# Altium integrated library ICs.IntLib: 97 symbols (part 1 of 3)
Pins are listed as number, name and electrical type; pins without a type are passive.

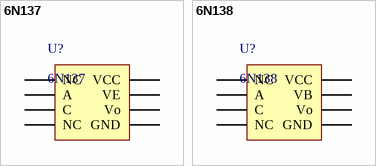
[diagram p0: symbols 6N137 to 6N138]

## 6N137
designator U?
footprint PDIP-8
pins: 1 NC, 2 A, 3 C, 4 NC, 5 GND, 6 Vo, 7 VE, 8 VCC

## 6N138
designator U?
footprint PDIP-8
pins: 1 NC, 2 A, 3 C, 4 NC, 5 GND, 6 Vo, 7 VB, 8 VCC


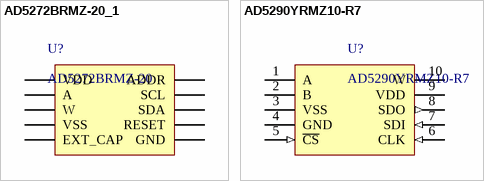
[diagram p1: symbols AD5272BRMZ-20_1 to AD5290YRMZ10-R7]

## AD5272BRMZ-20_1
designator U?, comment AD5272BRMZ-20
Digital Potentiometer ICs 1024p 5v SGL CHI2C 50-TP Mem Digi Rstat; Manufacturer: Texas Instruments; PartNumber: AD5272BRMZ-20; PackageReference: MSOP-10; PackageDescription: MSOP, 10-Leads, Body 3.00x3.00mm, Pitch 0.50mm, IPC Medium Density; Mounting Technology: Surface Mount
footprint MSOP-10 (TSSOP, 10-Leads, Body 3.00x3.00mm, Pitch 0.50mm, IPC Medium Density)
pins: 1 VDD, 2 A, 3 W, 4 VSS, 5 EXT_CAP, 6 GND, 7 RESET, 8 SDA, 9 SCL, 10 ADDR

## AD5290YRMZ10-R7
designator U?
Digital Potentiometer ICs +/-15V 8-Bit DigiPOT; Manufacturer: Texas Instruments; PartNumber: AD5290YRMZ10-R7; PackageReference: MSOP-10; PackageDescription: MSOP, 10-Leads, Body 3.00x3.00mm, Pitch 0.50mm, IPC Medium Density; Mounting Technology: Surface Mount
footprint MSOP-10 (TSSOP, 10-Leads, Body 3.00x3.00mm, Pitch 0.50mm, IPC Medium Density)
pins: 1 A, 2 B, 3 VSS (power), 4 GND (power), 5 ~{CS} (in), 6 CLK (in), 7 SDI (in), 8 SDO (out), 9 VDD (power), 10 W


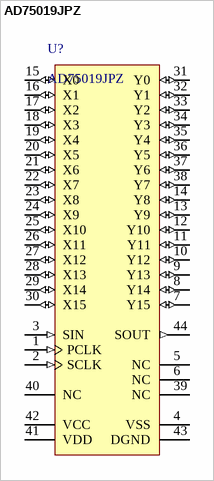
[diagram p2: symbol AD75019JPZ]

## AD75019JPZ
designator U?
Analog & Digital Crosspoint ICs 256 Analog Switches in a 16x16 Array; Manufacturer: Analog Devices; Output Buffer: No; Control Interface: Serial; Packing: Tube; Small Signal BW (MHz): 20; Slew Rate (V/us): n / a; Supply Voltage (V): +/-12; ComponentLink3URL: http://www.analog.com/static/imported-files/packages/533756178731793364534243243792136664964P44A.pdf; PackageReference: P-44A; ComponentLink3Description: Package Specification; DatasheetVersion: Rev. C; PackageDescription: 44-Pin Plastic Leaded Chip Carrier, Body 16.59 x 16.59 mm, Pitch 1.27 mm; ComponentLink2Description: Datasheet; Code_JEDEC: MO-047AC; PackageVersion: Jan-03; ComponentLink1Description: Manufacturer URL; ComponentLink2URL: http://www.analog.com/static/imported-files/data_sheets/AD75019.pdf; PartNumber: AD75019JPZ; Mounting Technology: Surface Mount; ComponentLink1URL: http://www.analog.com/en/index.html
footprint PLCC-44 (Leaded Chip Carrier, 44-Leads, Body 17.53x17.53mm, Pitch 1.270mm, IPC Medium Density)
pins: 1 PCLK (in) "Parallel Clock Input", 2 SCLK (in) "Serial Clock Input", 3 SIN (in) "Serial Data Input", 4 VSS (power) "Negative Analog Power Supply", 5 NC "No Internal Connection", 6 NC "No Internal Connection", 7 Y15 (io) "Analog Output (or Input)", 8 Y14 (io) "Analog Output (or Input)", 9 Y13 (io) "Analog Output (or Input)", 10 Y12 (io) "Analog Output (or Input)", 11 Y11 (io) "Analog Output (or Input)", 12 Y10 (io) "Analog Output (or Input)", 13 Y9 (io) "Analog Output (or Input)", 14 Y8 (io) "Analog Output (or Input)", 15 X0 (io) "Analog Input (or Output)", 16 X1 (io) "Analog Input (or Output)", 17 X2 (io) "Analog Input (or Output)", 18 X3 (io) "Analog Input (or Output)", 19 X4 (io) "Analog Input (or Output)", 20 X5 (io) "Analog Input (or Output)", 21 X6 (io) "Analog Input (or Output)", 22 X7 (io) "Analog Input (or Output)", 23 X8 (io) "Analog Input (or Output)", 24 X9 (io) "Analog Input (or Output)", 25 X10 (io) "Analog Input (or Output)", 26 X11 (io) "Analog Input (or Output)", 27 X12 (io) "Analog Input (or Output)", 28 X13 (io) "Analog Input (or Output)", 29 X14 (io) "Analog Output (or Input)", 30 X15 (io) "Analog Output (or Input)", 31 Y0 (io) "Analog Output (or Input)", 32 Y1 (io) "Analog Output (or Input)", 33 Y2 (io) "Analog Output (or Input)", 34 Y3 (io) "Analog Output (or Input)", 35 Y4 (io) "Analog Output (or Input)", 36 Y5 (io) "Analog Output (or Input)", 37 Y6 (io) "Analog Output (or Input)", 38 Y7 (io) "Analog Output (or Input)", 39 NC "No Internal Connection", 40 NC "No Internal Connection", 41 VDD (power) "Positive Analog Power Supply", 42 VCC (power) "Digital Power Supply", 43 DGND (power) "Digital Ground", 44 SOUT (out) "Serial Data Output: Positive True"


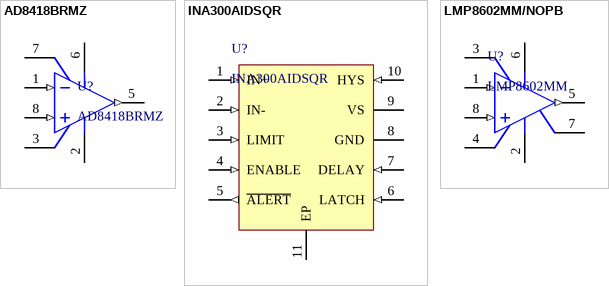
[diagram p3: symbols AD8418BRMZ to LMP8602MM/NOPB]

## AD8418BRMZ
designator U?
Current Sense Amplifiers Zero Drift ,Precision Current Sense AMP; Manufacturer: Analog Devices; PartNumber: AD8418BRMZ; Mounting Technology: Surface Mount; PackageReference: MSOP-8; PackageDescription: SOP, 8-Leads, Body 3x3mm, Pitch 0.65mm, IPC Medium Density
footprint MSOP-8 (SOP, 8-Leads, Body 3x3mm, Pitch 0.65mm, IPC Medium Density)
pins: 1 IN- (in), 2 GND (power), 3 VREF2, 5 OUT (out), 6 VS (power), 7 VREF1, 8 IN+ (in)

## INA300AIDSQR
designator U?
Current & Power Monitors & Regulators Hi-Lo Side Bi-Direct Crnt Sense Comprtr; Manufacturer: Texas Instruments; PartNumber: INA300AIDSQR; Mounting Technology: Surface Mount; PackageReference: WSON-10
footprint WSON-10 (SON, 10-Leads, Body 2.00x2.00mm, Pitch 0.40mm, Thermal Pad 1.50x0.79mm, IPC Medium Density)
pins: 1 IN+ (in), 2 IN- (in), 3 LIMIT (in), 4 ENABLE (in), 5 ~{ALERT} (out), 6 LATCH (in), 7 DELAY (in), 8 GND (power), 9 VS (power), 10 HYS (in), 11 EP (power)

## LMP8602MM/NOPB
designator U?, comment LMP8602MM
Current Sense Amplifiers 60-V, Bi-Directional, Low- or High-Side, Voltage Output Current Sensing Amplifier 8-VSSOP -40 to 125; Manufacturer: Texas Instruments; PartNumber: LMP8602MM/NOPB; Mounting Technology: Surface Mount; PackageReference: MSOP-8
footprint MSOP-8 (SOP, 8-Leads, Body 3x3mm, Pitch 0.65mm, IPC Medium Density)
pins: 1 IN- (in), 2 GND (power), 3 A1, 4 A2, 5 OUT (out), 6 VS (power), 7 OFS, 8 IN+ (in)


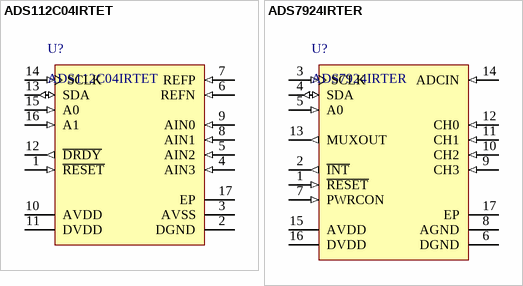
[diagram p4: symbols ADS112C04IRTET to ADS7924IRTER]

## ADS112C04IRTET
designator U?
IC ADC 16BIT I2C 1KSPS 16WQFN; Manufacturer: Texas Instruments; PackageReference: QFN-16; Mounting Technology: Surface Mount; PartNumber: ADS112C04IRTET
footprint QFN-16 (QFN, 16-Leads, Body 3.00x3.00mm, Pitch 0.50mm, Thermal Pad 1.80x1.80mm, IPC Medium Density)
pins: 1 ~{RESET} (in) "External reset, active low", 2 DGND (power) "Digital ground", 3 AVSS (power) "Analog ground", 4 AIN3 (in) "Input channel 3", 5 AIN2 (in) "Input channel 2", 6 REFN (in) "Power control pin to control shutdown/power-up of external op amp", 7 REFP (in) "ADC input", 8 AIN1 (in) "Input channel 1", 9 AIN0 (in) "Input channel 0", 10 AVDD (power) "Analog supply", 11 DVDD (power) "Digital supply", 12 ~{DRDY} (out) "Interrupt pin, active low; generated when input voltage is beyond programmed threshold", 13 SDA (io) "Serial data", 14 SCLK (in) "Serial clock input", 15 A0 (in) "I2C address selection", 16 A1 (in) "I2C address selection", 17 EP (power) "Connect to AGND."

## ADS7924IRTER
designator U?
IC ADC 12BIT I2C 100KSPS 16WQFN; Manufacturer: Texas Instruments; PackageReference: QFN-16; Mounting Technology: Surface Mount; PartNumber: ADS7924IRTER
footprint QFN-16 (QFN, 16-Leads, Body 3.00x3.00mm, Pitch 0.50mm, Thermal Pad 1.80x1.80mm, IPC Medium Density)
pins: 1 ~{RESET} (in) "External reset, active low", 2 ~{INT} (out) "Interrupt pin, active low; generated when input voltage is beyond programmed threshold", 3 SCLK (in) "Serial clock input", 4 SDA (io) "Serial data", 5 A0 (in) "I2C address selection", 6 DGND (power) "Digital ground", 7 PWRCON (in) "Power control pin to control shutdown/power-up of external op amp", 8 AGND (power) "Analog ground", 9 CH3 (in) "Input channel 3", 10 CH2 (in) "Input channel 2", 11 CH1 (in) "Input channel 1", 12 CH0 (in) "Input channel 0", 13 MUXOUT (out) "Multiplexer output", 14 ADCIN (in) "ADC input", 15 AVDD (power) "Analog supply", 16 DVDD (power) "Digital supply", 17 EP (power) "Connect to AGND."


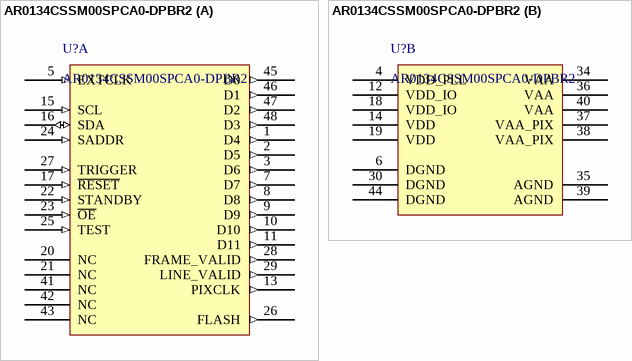
[diagram p5: symbol AR0134CSSM00SPCA0-DPBR2]

## AR0134CSSM00SPCA0-DPBR2
designator U?
Image Sensors 1.2 MP 1/3 GS CIS Image Sensor; Manufacturer: ON Semiconductor; PartNumber: AR0134CSSM00SPCA0-DPBR2; Mounting Technology: Surface Mount; PackageReference: ILCC-48
footprint ILCC-48 (LCC, 48-Pins, Body 10.00x10.00mmx1.25mm, Pitch 0.70mm, IPC Medium Density)
part A pins: 1 D4 (out), 2 D5 (out), 3 D6 (out), 5 EXTCLK (in), 7 D7 (out), 8 D8 (out), 9 D9 (out), 10 D10 (out), 11 D11 (out), 13 PIXCLK (out), 15 SCL (in), 16 SDA (io), 17 ~{RESET} (in), 20 NC, 21 NC, 22 STANDBY (in), 23 ~{OE} (in), 24 SADDR (in), 25 TEST (in), 26 FLASH (out), 27 TRIGGER (in), 28 FRAME_VALID (out), 29 LINE_VALID (out), 41 NC, 42 NC, 43 NC, 45 D0 (out), 46 D1 (out), 47 D2 (out), 48 D3 (out)
part B pins: 4 VDD_PLL (power), 6 DGND (power), 12 VDD_IO (power), 14 VDD (power), 18 VDD_IO (power), 19 VDD (power), 30 DGND (power), 34 VAA (power), 35 AGND (power), 36 VAA (power), 37 VAA_PIX (power), 38 VAA_PIX (power), 39 AGND (power), 40 VAA (power), 44 DGND (power)


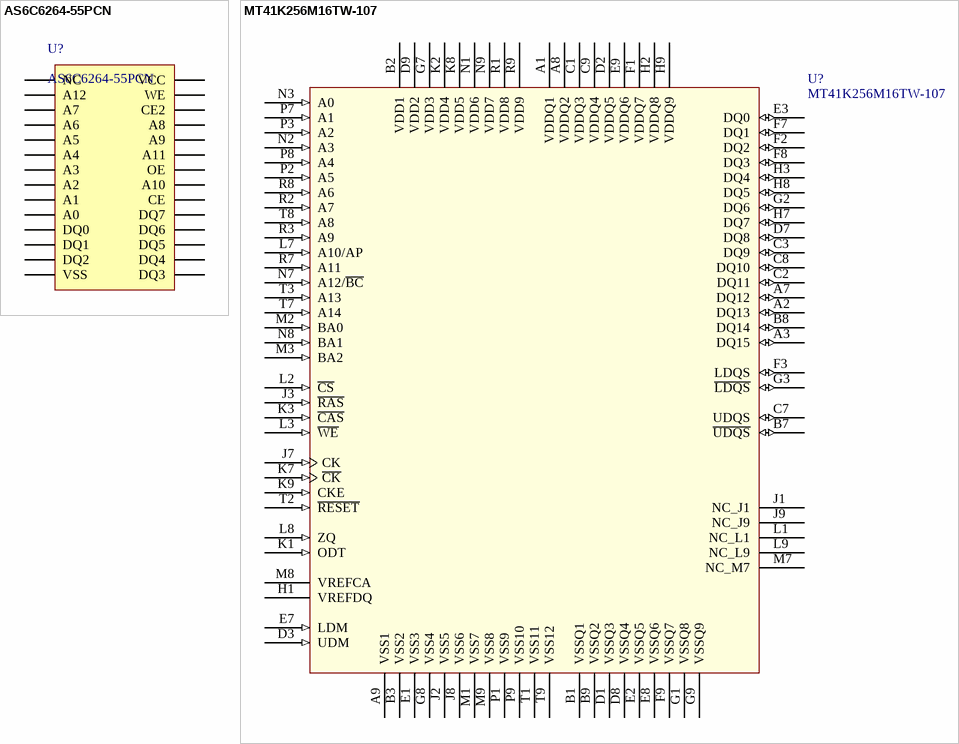
[diagram p6: symbols AS6C6264-55PCN to MT41K256M16TW-107]

## AS6C6264-55PCN
designator U?
Manufacturer: Alliance Memory, Inc.; PartNumber: AS6C6264-55PCN; Mounting Technology: Through Hole; PackageReference: PDIP-28
footprint PDIP-28
pins: 1 NC, 2 A12, 3 A7, 4 A6, 5 A5, 6 A4, 7 A3, 8 A2, 9 A1, 10 A0, 11 DQ0, 12 DQ1, 13 DQ2, 14 VSS, 15 DQ3, 16 DQ4, 17 DQ5, 18 DQ6, 19 DQ7, 20 CE, 21 A10, 22 OE, 23 A11, 24 A9, 25 A8, 26 CE2, 27 WE, 28 VCC

## MT41K256M16TW-107
designator U?
IC SDRAM 4GBIT 933MHZ 96FBGA; Manufacturer: Micron Technology; PartNumber: MT41K256M16TW-107; Mounting Technology: Surface Mount; PackageReference: BGA-96
footprint BGA-96 (BGA, 96-Leads, Body 8.00x14.00mmx1.10mm, Pitch 0.80mm)
pins: A1 VDDQ1 (power), A2 DQ13 (io), A3 DQ15 (io), A7 DQ12 (io), A8 VDDQ2 (power), A9 VSS1 (power), B1 VSSQ1 (power), B2 VDD1 (power), B3 VSS2 (power), B7 ~{UDQS} (io), B8 DQ14 (io), B9 VSSQ2 (power), C1 VDDQ3 (power), C2 DQ11 (io), C3 DQ9 (io), C7 UDQS (io), C8 DQ10 (io), C9 VDDQ4 (power), D1 VSSQ3 (power), D2 VDDQ5 (power), D3 UDM (in), D7 DQ8 (io), D8 VSSQ4 (power), D9 VDD2 (power), E1 VSS3 (power), E2 VSSQ5 (power), E3 DQ0 (io), E7 LDM (in), E8 VSSQ6 (power), E9 VDDQ6 (power), F1 VDDQ7 (power), F2 DQ2 (io), F3 LDQS (io), F7 DQ1 (io), F8 DQ3 (io), F9 VSSQ7 (power), G1 VSSQ8 (power), G2 DQ6 (io), G3 ~{LDQS} (io), G7 VDD3 (power), G8 VSS4 (power), G9 VSSQ9 (power), H1 VREFDQ (power), H2 VDDQ8 (power), H3 DQ4 (io), H7 DQ7 (io), H8 DQ5 (io), H9 VDDQ9 (power), J1 NC_J1, J2 VSS5 (power), J3 ~{RAS} (in), J7 CK (in), J8 VSS6 (power), J9 NC_J9, K1 ODT (in), K2 VDD4 (power), K3 ~{CAS} (in), K7 ~{CK} (in), K8 VDD5 (power), K9 CKE (in), L1 NC_L1, L2 ~{CS} (in), L3 ~{WE} (in), L7 A10/AP (in), L8 ZQ (in), L9 NC_L9, M1 VSS7 (power), M2 BA0 (in), M3 BA2 (in), M7 NC_M7, M8 VREFCA (power), M9 VSS8 (power), N1 VDD6 (power), N2 A3 (in), N3 A0 (in), N7 A12/~{BC} (in), N8 BA1 (in), N9 VDD7 (power), P1 VSS9 (power), P2 A5 (in), P3 A2 (in), P7 A1 (in), P8 A4 (in), P9 VSS10 (power), R1 VDD8 (power), R2 A7 (in), R3 A9 (in), R7 A11 (in), R8 A6 (in), R9 VDD9 (power), T1 VSS11 (power), T2 ~{RESET} (in), T3 A13 (in), T7 A14 (in), T8 A8 (in), T9 VSS12 (power)


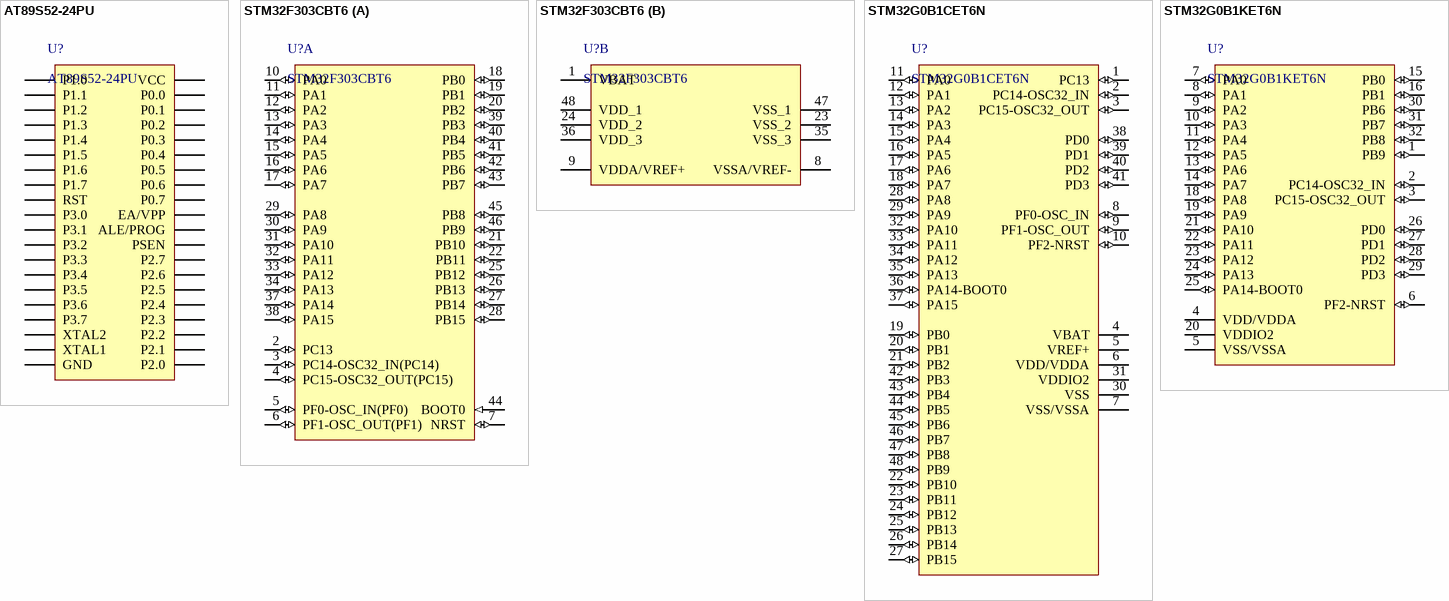
[diagram p7: symbols AT89S52-24PU to STM32G0B1KET6N]

## AT89S52-24PU
designator U?
Manufacturer: Atmel; PartNumber: AT89S52-24PU; Mounting Technology: Through Hole; PackageReference: PDIP-40
footprint PDIP-40
pins: 1 P1.0, 2 P1.1, 3 P1.2, 4 P1.3, 5 P1.4, 6 P1.5, 7 P1.6, 8 P1.7, 9 RST, 10 P3.0, 11 P3.1, 12 P3.2, 13 P3.3, 14 P3.4, 15 P3.5, 16 P3.6, 17 P3.7, 18 XTAL2, 19 XTAL1, 20 GND, 21 P2.0, 22 P2.1, 23 P2.2, 24 P2.3, 25 P2.4, 26 P2.5, 27 P2.6, 28 P2.7, 29 PSEN, 30 ALE/PROG, 31 EA/VPP, 32 P0.7, 33 P0.6, 34 P0.5, 35 P0.4, 36 P0.3, 37 P0.2, 38 P0.1, 39 P0.0, 40 VCC

## STM32F303CBT6
designator U?
Manufacturer: STMicroelectronics; PartNumber: STM32F303CBT6; Mounting Technology: Surface Mount; PackageReference: LQFP-48; PackageDescription: QFP, 48-Leads, Body 7x7mm, Pitch 0.5mm
footprint LQFP-48 (QFP, 48-Leads, Body 7x7mm, Pitch 0.5mm, IPC High Density)
part A pins: 2 PC13 (io) "PC13/TIM1_CH1N/WKUP2,RTC_TAMP1,RTC_TS,RTC_OUT", 3 PC14-OSC32_IN(PC14) (io) "PC14-OSC32_IN(PC14)/OSC32_IN", 4 PC15-OSC32_OUT(PC15) (io) "PC15-OSC32_OUT(PC15)/OSC32_OUT", 5 PF0-OSC_IN(PF0) (io) "PF0-OSC_IN(PF0)/TIM1_CH3N,I2C2_SDA/OSC_IN", 6 PF1-OSC_OUT(PF1) (io) "PF1-OSC_OUT(PF1)/I2C2_SCL/OSC_OUT", 7 NRST (io) "Device reset input / internal reset output (active low)", 10 PA0 (io) "PA0/USART2_CTS,TIM2_CH1_ETR,TIM8_BKIN,TIM8_ETR,TSC_G1_IO1,COMP1_OUT,EVENTOUT/ADC1_IN1,COMP1_INM,RTC_TAMP2,WKUP1,COMP7_INP", 11 PA1 (io) "PA1/USART2_RTS,TIM2_CH2,TSC_G1_IO2,TIM15_CH1N,RTC_REFIN,EVENTOUT/ADC1_IN2,COMP1_INP,OPAMP1_VINP,OPAMP3_VINP", 12 PA2 (io) "PA2/USART2_TX,TIM2_CH3,TIM15_CH1,TSC_G1_IO3,COMP2_OUT,EVENTOUT/ADC1_IN3,COMP2_INM,OPAMP1_VOUT", 13 PA3 (io) "PA3/USART2_RX,TIM2_CH4,TIM15_CH2,TSC_G1_IO4,EVENTOUT/ADC1_IN4,OPAMP1_VINP,COMP2_INP,OPAMP1_VINM", 14 PA4 (io) "PA4/SPI1_NSS,SPI3_NSS,I2S3_WS,USART2_CK,TSC_G2_IO1,TIM3_CH2,EVENTOUT/ADC2_IN1,DAC1_OUT1,OPAMP4_VINP,COMP1_INM,COMP2_INM,COMP3_INM,COMP4_INM,COMP5_INM,COMP6_INM,COMP7_INM", 15 PA5 (io) "PA5/SPI1_SCK,TIM2_CH1_ETR,TSC_G2_IO2,EVENTOUT/ADC2_IN2,DAC1_OUT2,OPAMP1_VINP,OPAMP2_VINM,OPAMP3_VINP,COMP1_INM,COMP2_INM,COMP3_INM,COMP4_INM,COMP5_INM,COMP6_INM,COMP7_INM", 16 PA6 (io) "PA6/SPI1_MISO,TIM3_CH1,TIM8_BKIN,TIM1_BKIN,TIM16_CH1,COMP1_OUT,TSC_G2_IO3,EVENTOUT/ADC2_IN3,OPAMP2_VOUT", 17 PA7 (io) "PA7/SPI1_MOSI,TIM3_CH2,TIM17_CH1,TIM1_CH1N,TIM8_CH1N,TSC_G2_IO4,COMP2_OUT,EVENTOUT/ADC2_IN4,COMP2_INP,OPAMP2_VINP,OPAMP1_VINP", 18 PB0 (io) "PB0/TIM3_CH3,TIM1_CH2N,TIM8_CH2N,TSC_G3_IO2,EVENTOUT/ADC3_IN12,COMP4_INP,OPAMP3_VINP,OPAMP2_VINP", 19 PB1 (io) "PB1/TIM3_CH4,TIM1_CH3N,TIM8_CH3N,COMP4_OUT,TSC_G3_IO3,EVENTOUT/ADC3_IN1,OPAMP3_VOUT", 20 PB2 (io) "PB2/TSC_G3_IO4,EVENTOUT/ADC2_IN12,COMP4_INM,OPAMP3_VINM", 21 PB10 (io) "PB10/USART3_TX,TIM2_CH3,TSC_SYNC,EVENTOUT/COMP5_INM,OPAMP4_VINM,OPAMP3_VINM", 22 PB11 (io) "PB11/USART3_RX,TIM2_CH4,TSC_G6_IO1,EVENTOUT/COMP6_INP,OPAMP4_VINP", 25 PB12 (io) "PB12/SPI2_NSS,I2S2_WS,I2C2_SMBA,USART3_CK,TIM1_BKIN,TSC_G6_IO2,EVENTOUT/ADC4_IN3,COMP3_INM,OPAMP4_VOUT", 26 PB13 (io) "PB13/SPI2_SCK,I2S2_CK,USART3_CTS,TIM1_CH1N,TSC_G6_IO3,EVENTOUT/ADC3_IN5,COMP5_INP,OPAMP4_VINP,OPAMP3_VINP", 27 PB14 (io) "PB14/SPI2_MISO,I2S2ext_SD,USART3_RTS,TIM1_CH2N,TIM15_CH1,TSC_G6_IO4,EVENTOUT/COMP3_INP,ADC4_IN4,OPAMP2_VINP", 28 PB15 (io) "PB15/SPI2_MOSI,I2S2_SD,TIM1_CH3N,RTC_REFIN,TIM15_CH1N,TIM15_CH2,EVENTOUT/ADC4_IN5,COMP6_INM", 29 PA8 (io) "PA8/I2C2_SMBA,I2S2_MCK,USART1_CK,TIM1_CH1,TIM4_ETR,MCO,COMP3_OUT,EVENTOUT", 30 PA9 (io) "PA9/I2C2_SCL,I2S3_MCK,USART1_TX,TIM1_CH2,TIM2_CH3,TIM15_BKIN,TSC_G4_IO1,COMP5_OUT,EVENTOUT", 31 PA10 (io) "PA10/I2C2_SDA,USART1_RX,TIM1_CH3,TIM2_CH4,TIM8_BKIN,TIM17_BKIN,TSC_G4_IO2,COMP6_OUT,EVENTOUT", 32 PA11 (io) "PA11/USART1_CTS,USB_DM,CAN_RX,TIM1_CH1N,TIM1_CH4,TIM1_BKIN2,TIM4_CH1,COMP1_OUT,EVENTOUT", 33 PA12 (io) "PA12/USART1_RTS,USB_DP,CAN_TX,TIM1_CH2N,TIM1_ETR,TIM4_CH2,TIM16_CH1,COMP2_OUT,EVENTOUT", 34 PA13 (io) "PA13/USART3_CTS,TIM4_CH3,TIM16_CH1N,TSC_G4_IO3,IR_OUT,SWDIO-JTMS,EVENTOUT", 37 PA14 (io) "PA14/I2C1_SDA,USART2_TX,TIM8_CH2,TIM1_BKIN,TSC_G4_IO4,SWCLK-JTCK,EVENTOUT", 38 PA15 (io) "PA15/I2C1_SCL,SPI1_NSS,SPI3_NSS,I2S3_WS,JTDI,USART2_RX,TIM1_BKIN,TIM2_CH1_ETR,TIM8_CH1,EVENTOUT", 39 PB3 (io) "PB3/SPI3_SCK,I2S3_CK,SPI1_SCK,USART2_TX,TIM2_CH2,TIM3_ETR,TIM4_ETR,TIM8_CH1N,TSC_G5_IO1,JTDO-TRACESWO,EVENTOUT", 40 PB4 (io) "PB4/SPI3_MISO,I2S3ext_SD,SPI1_MISO,USART2_RX,TIM3_CH1,TIM16_CH1,TIM17_BKIN,TIM8_CH2N,TSC_G5_IO2,NJTRST,EVENTOUT", 41 PB5 (io) "PB5/SPI3_MOSI,SPI1_MOSI,I2S3_SD,I2C1_SMBA,USART2_CK,TIM16_BKIN,TIM3_CH2,TIM8_CH3N,TIM17_CH1,EVENTOUT", 42 PB6 (io) "PB6/I2C1_SCL,USART1_TX,TIM16_CH1N,TIM4_CH1,TIM8_CH1,TSC_G5_IO3,TIM8_ETR,TIM8_BKIN2,EVENTOUT", 43 PB7 (io) "PB7/I2C1_SDA,USART1_RX,TIM3_CH4,TIM4_CH2,TIM17_CH1N,TIM8_BKIN,TSC_G5_IO4,EVENTOUT", 44 BOOT0 (in) "Boot memory selection", 45 PB8 (io) "PB8/I2C1_SCL,CAN_RX,TIM16_CH1,TIM4_CH3,TIM8_CH2,TIM1_BKIN,TSC_SYNC,COMP1_OUT,EVENTOUT", 46 PB9 (io) "PB9/I2C1_SDA,CAN_TX,TIM17_CH1,TIM4_CH4,TIM8_CH3,IR_OUT,COMP2_OUT,EVENTOUT"
part B pins: 1 VBAT (power) "Backup power supply", 8 VSSA/VREF- (power) "Analog ground/Negative reference voltage", 9 VDDA/VREF+ (power) "Analog power supply/Positive reference voltage", 23 VSS_2 (power) "Digital power supply", 24 VDD_2 (power) "Digital power supply", 35 VSS_3 (power) "Ground", 36 VDD_3 (power) "Digital power supply", 47 VSS_1 (power) "Ground", 48 VDD_1 (power) "Digital power supply"

## STM32G0B1CET6N
designator U?
ARM Microcontrollers - MCU Mainstream Arm Cortex-M0+ 32-bit MCU, up to 512KB Flash, 144KB RAM, 6x USART; Manufacturer: STMicroelectronics; PartNumber: STM32G0B1CET6N; Mounting Technology: Surface Mount; PackageReference: LQFP-48; PackageDescription: QFP, 48-Leads, Body 7x7mm, Pitch 0.5mm
footprint LQFP-48 (QFP, 48-Leads, Body 7x7mm, Pitch 0.5mm, IPC High Density)
pins: 1 PC13 (io), 2 PC14-OSC32_IN (io), 3 PC15-OSC32_OUT (io), 4 VBAT (power), 5 VREF+ (power), 6 VDD/VDDA (power), 7 VSS/VSSA (power), 8 PF0-OSC_IN (io), 9 PF1-OSC_OUT (io), 10 PF2-NRST (io), 11 PA0 (io), 12 PA1 (io), 13 PA2 (io), 14 PA3 (io), 15 PA4 (io), 16 PA5 (io), 17 PA6 (io), 18 PA7 (io), 19 PB0 (io), 20 PB1 (io), 21 PB2 (io), 22 PB10 (io), 23 PB11 (io), 24 PB12 (io), 25 PB13 (io), 26 PB14 (io), 27 PB15 (io), 28 PA8 (io), 29 PA9 (io), 30 VSS (power), 31 VDDIO2 (power), 32 PA10 (io), 33 PA11 (io), 34 PA12 (io), 35 PA13 (io), 36 PA14-BOOT0 (io), 37 PA15 (io), 38 PD0 (io), 39 PD1 (io), 40 PD2 (io), 41 PD3 (io), 42 PB3 (io), 43 PB4 (io), 44 PB5 (io), 45 PB6 (io), 46 PB7 (io), 47 PB8 (io), 48 PB9 (io)

## STM32G0B1KET6N
designator U?
ARM Microcontrollers - MCU Mainstream Arm Cortex-M0+ 32-bit MCU, up to 512KB Flash, 144KB RAM, 6x USART; Manufacturer: STMicroelectronics; PartNumber: STM32G0B1KET6N; Mounting Technology: Surface Mount; PackageReference: LQFP-32; PackageDescription: QFP, 32-Leads, Body 7x7mm, Pitch 0.8mm
pins: 1 PB9 (io), 2 PC14-OSC32_IN (io), 3 PC15-OSC32_OUT (io), 4 VDD/VDDA (power), 5 VSS/VSSA (power), 6 PF2-NRST (io), 7 PA0 (io) "PA0/USART2_CTS,TIM2_CH1_ETR,TIM8_BKIN,TIM8_ETR,TSC_G1_IO1,COMP1_OUT,EVENTOUT/ADC1_IN1,COMP1_INM,RTC_TAMP2,WKUP1,COMP7_INP", 8 PA1 (io) "PA1/USART2_RTS,TIM2_CH2,TSC_G1_IO2,TIM15_CH1N,RTC_REFIN,EVENTOUT/ADC1_IN2,COMP1_INP,OPAMP1_VINP,OPAMP3_VINP", 9 PA2 (io) "PA2/USART2_TX,TIM2_CH3,TIM15_CH1,TSC_G1_IO3,COMP2_OUT,EVENTOUT/ADC1_IN3,COMP2_INM,OPAMP1_VOUT", 10 PA3 (io) "PA3/USART2_RX,TIM2_CH4,TIM15_CH2,TSC_G1_IO4,EVENTOUT/ADC1_IN4,OPAMP1_VINP,COMP2_INP,OPAMP1_VINM", 11 PA4 (io) "PA4/SPI1_NSS,SPI3_NSS,I2S3_WS,USART2_CK,TSC_G2_IO1,TIM3_CH2,EVENTOUT/ADC2_IN1,DAC1_OUT1,OPAMP4_VINP,COMP1_INM,COMP2_INM,COMP3_INM,COMP4_INM,COMP5_INM,COMP6_INM,COMP7_INM", 12 PA5 (io) "PA5/SPI1_SCK,TIM2_CH1_ETR,TSC_G2_IO2,EVENTOUT/ADC2_IN2,DAC1_OUT2,OPAMP1_VINP,OPAMP2_VINM,OPAMP3_VINP,COMP1_INM,COMP2_INM,COMP3_INM,COMP4_INM,COMP5_INM,COMP6_INM,COMP7_INM", 13 PA6 (io) "PA6/SPI1_MISO,TIM3_CH1,TIM8_BKIN,TIM1_BKIN,TIM16_CH1,COMP1_OUT,TSC_G2_IO3,EVENTOUT/ADC2_IN3,OPAMP2_VOUT", 14 PA7 (io) "PA7/SPI1_MOSI,TIM3_CH2,TIM17_CH1,TIM1_CH1N,TIM8_CH1N,TSC_G2_IO4,COMP2_OUT,EVENTOUT/ADC2_IN4,COMP2_INP,OPAMP2_VINP,OPAMP1_VINP", 15 PB0 (io), 16 PB1 (io), 18 PA8 (io), 19 PA9 (io), 20 VDDIO2 (power), 21 PA10 (io), 22 PA11 (io), 23 PA12 (io), 24 PA13 (io), 25 PA14-BOOT0 (io), 26 PD0 (io), 27 PD1 (io), 28 PD2 (io), 29 PD3 (io), 30 PB6 (io), 31 PB7 (io), 32 PB8 (io)


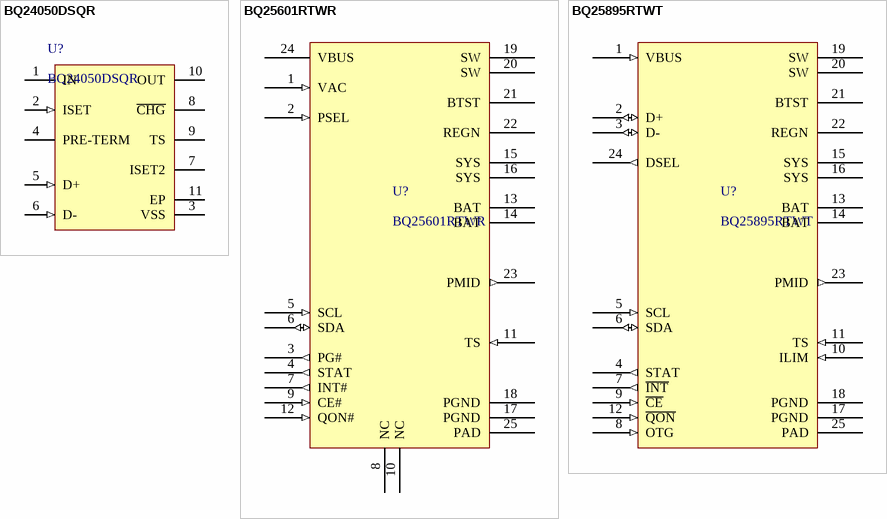
[diagram p8: symbols BQ24050DSQR to BQ25895RTWT]

## BQ24050DSQR
designator U?
Manufacturer: Texas Instruments; PartNumber: BQ24050DSQR; PackageReference: WSON-10; Mounting Technology: Surface Mount
footprint WSON-10 (SON, 10-Leads, Body 2.00x2.00mm, Pitch 0.40mm, Thermal Pad 1.50x0.79mm, IPC Medium Density)
pins: 1 IN (power) "Input power, connected to external DC supply (AC adapter or USB port). Expected range of bypass capacitors 1 uF to 10 uF, connect from IN to VSS.", 2 ISET (in) "Programs the Fast-charge current setting. External resistor from ISET to VSS defines fast charge current value. Range is 10.8k (50mA) to 675 ohm (800mA).", 3 VSS (power) "Ground terminal.", 4 PRE-TERM "Programs the Current Termination Threshold (5 to 50% of Iout which is set by ISET) and Sets the Pre-Charge Current to twice the Termination Current Level. Expected range of programming resistor is 1k to 10 k ohm(2k: IOUT / (See Datasheet)", 5 D+ (in) "USB port D+ input connection.", 6 D- (in) "USB port D- input connection.", 7 ISET2 "Programming the Input / Output Current Limit for the USB or Adaptor source: High =500 mA max, Low = ISET, FLOAT = 100mA max. D+ D- Detection initially sets the charge threshold and requires ISET2 to change states to take (See Datasheet)", 8 ~{CHG} (hiz) "Low (FET on) indicates charging and Open Drain (FET off) indicates no Charging or Charge complete.", 9 TS "Temperature sense pin connected to ' 0/55 -10k at 25C NTC thermistor, ' 2 - 100k NTC at 25 degC, in the battery pack. Floating TS Pin or pulling High puts part in TTDM and disable TS monitoring, Timers and Termination. (See Datasheet)", 10 OUT (power) "Battery Connection. System Load may be connected. Average load should not be excessive, allowing battery to charge within the 10 hour safety timer window. Expected range of bypass capacitors 1 uF to 10 uF.", 11 EP (power) "There is an internal electrical connection between the exposed thermal pad and the VSS pin of the device. The thermal pad must be connected to the same potential as the VSS pin on the printed circuit board. Do not use the (See Datasheet)"

## BQ25601RTWR
designator U?
Battery Management I2C Controlled Single Cell 3-A Battery Charger with High Input Voltage and Power Path 24-WQFN -40 to 85; Manufacturer: Texas Instruments; PartNumber: BQ25601RTWR; PackageReference: WQFN-24; Mounting Technology: Surface Mount
footprint WQFN-24 (QFN, 24-Leads, Body 4.00x4.00mm, Pitch 0.50mm, Thermal Pad 2.70x2.70mm, IPC Medium Density)
pins: 1 VAC (in), 2 PSEL (in), 3 PG# (out), 4 STAT (out), 5 SCL (in), 6 SDA (io), 7 INT# (out), 8 NC, 9 CE# (in), 10 NC, 11 TS (in), 12 QON# (in), 13 BAT (power), 14 BAT (power), 15 SYS (power), 16 SYS (power), 17 PGND (power), 18 PGND (power), 19 SW (power), 20 SW (power), 21 BTST (power), 22 REGN (power), 23 PMID (out), 24 VBUS (power), 25 PAD (power)

## BQ25895RTWT
designator U?
IC NVDC CHARGER I2C 24WQFN; Manufacturer: Texas Instruments; PartNumber: BQ25895RTWT; PackageReference: WQFN-24; Mounting Technology: Surface Mount
footprint WQFN-24 (QFN, 24-Leads, Body 4.00x4.00mm, Pitch 0.50mm, Thermal Pad 2.70x2.70mm, IPC Medium Density)
pins: 1 VBUS (in), 2 D+ (io), 3 D- (io), 4 STAT (out), 5 SCL (in), 6 SDA (io), 7 ~{INT} (out), 8 OTG (in), 9 ~{CE} (in), 10 ILIM (in), 11 TS (in), 12 ~{QON} (in), 13 BAT (power), 14 BAT (power), 15 SYS (power), 16 SYS (power), 17 PGND (power), 18 PGND (power), 19 SW (power), 20 SW (power), 21 BTST (power), 22 REGN (power), 23 PMID (out), 24 DSEL (out), 25 PAD (power)


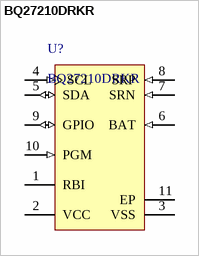
[diagram p9: symbol BQ27210DRKR]

## BQ27210DRKR
designator U?
Manufacturer: Texas Instruments; PartNumber: BQ27210DRKR; PackageReference: VSON-10; Mounting Technology: Surface Mount
footprint VSON-10 (SON, 10-Leads, Body 4x3mm, Pitch 0.5mm, Thermal Pad 3.8x2.65mm)
pins: 1 RBI (power) "Register back-up input", 2 VCC (power) "VCC supply input", 3 VSS (power) "Ground input", 4 SCL (in) "Serial clock input (I2C)", 5 SDA (io) "Serial data input (I2C)", 6 BAT (in) "Battery voltage sense input", 7 SRN (in) "Current sense input (negative)", 8 SRP (in) "Current sense input (positive)", 9 GPIO (io) "General purpose input/output", 10 PGM (in) "EEPROM programming voltage input", 11 EP (power) "Ground shield"


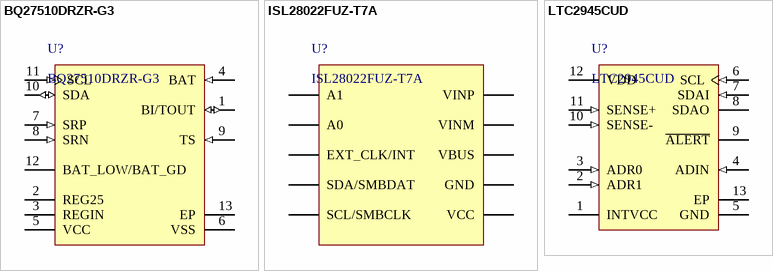
[diagram p10: symbols BQ27510DRZR-G3 to LTC2945CUD]

## BQ27510DRZR-G3
designator U?
Battery Management System-Side Impedance Track Fuel Gauge; Manufacturer: Texas Instruments; PartNumber: BQ27510DRZR-G3; PackageReference: VSON-12; Mounting Technology: Surface Mount
footprint VSON-12 (SON, 12-Leads, Body 4x2.5mm, Pitch 0.4mm, Thermal Pad 1.95x2.45mm, TI Recommended)
pins: 1 BI/TOUT (io) "Battery-insertion detection input. Power pin for pack thermistor network. Thermistor-multiplexer control pin. Open-drain I/O. Use with pull-up resistor >1M ohm (1.8 M ohm typical).", 2 REG25 (power) "2.5 V output voltage of the internal integrated LDO.", 3 REGIN (power) "The input voltage for the internal integrated LDO.", 4 BAT (in) "Cell voltage measurement input. ADC input.", 5 VCC (power) "Processor power input. Decouple with 0.1uF ceramic capacitor minimum.", 6 VSS (power) "Device ground", 7 SRP (in) "Analog input pin connected to the internal coulomb counter where SRP is nearest the PACK-connection. Connect to 5-M ohm  to 20-M ohm sense resistor.", 8 SRN (in) "Analog input pin connected to the internal coulomb counter where SRN is nearest the VSS-connection. Connect to a 5-M ohm to 20-M ohm sense resistor.", 9 TS (in) "Pack thermistor voltage sense (use 103AT-type thermistor). ADC input", 10 SDA (io) "Slave I2C serial communications data line for communication with system (Master). Open-drain I/O. Use with 10-K ohm pull-up resistor (typical).", 11 SCL (in) "Slave I2C serial communications clock input line for communication with system (Master). Use with 10-K ohm pull-up resistor (typical).", 12 BAT_LOW/BAT_GD (oc) "Battery-good or Battery-low output indicator. Desired function polarity selected through the Operation Configuration register. Open-drain output", 13 EP "Exposed pad."

## ISL28022FUZ-T7A
designator U?
Manufacturer: Intersil; PartNumber: ISL28022FUZ-T7A; Mounting Technology: Surface Mount; PackageReference: MSOP-10
footprint MSOP-10 (TSSOP, 10-Leads, Body 3.00x3.00mm, Pitch 0.50mm, IPC Medium Density)
pins: 1 A1, 2 A0, 3 EXT_CLK/INT, 4 SDA/SMBDAT, 5 SCL/SMBCLK, 6 VCC (power), 7 GND (power), 8 VBUS, 9 VINM, 10 VINP

## LTC2945CUD
designator U?
Power Supply Controller General Purpose 12-QFN (3x3); Manufacturer: Linear Technology; PartNumber: LTC2945CUD#PBF; Mounting Technology: Surface Mount; PackageReference: QFN-12
footprint QFN-12 (QFN, 12-Leads, Body 3.1x3.1mm, Pitch 0.5mm, Thermal Pad 1.65x1.65mm, IPC High Density)
pins: 1 INTVCC (power) "Internal Low Voltage Supply Input/Output. This pin is used to power internal circuitry. It can be configured as a direct input for a low voltage supply, as linear regulator from higher voltage supply connected to VDD, or as (See Datasheet)", 2 ADR1 (in) "I2C Device Address Inputs. Connecting these pins to INTVCC, GND or leaving the pins open configures one of nine possible addresses. See Table 1 in Applications Information section for details.", 3 ADR0 (in) "I2C Device Address Inputs. Connecting these pins to INTVCC, GND or leaving the pins open configures one of nine possible addresses. See Table 1 in Applications Information section for details.", 4 ADIN (in) "ADC Input. The onboard ADC measures voltages between 0V and 2.048V. Tie to ground if unused.", 5 GND (power) "Device Ground.", 6 SCL (in) "I2C Bus Clock Input. Data at the SDAI pin is shifted in or out on rising edges of SCL. This pin is driven by an open-collector output from a master controller. An external pull-up resistor or current source is required and (See Datasheet)", 7 SDAI (in) "I2C Bus Data Input. Used for shifting in address, command or data bits. This pin is driven by an opencollector output from a master controller. An external pull-up resistor or current source is required and can be placed (See Datasheet)", 8 SDAO (oc) "I2C Bus Data Output. Open-drain output used for sending data back to the master controller or acknowledging a write operation. An external pull-up resistor or current source is required.", 9 ~{ALERT} (oc) "Fault Alert Output. Open drain logic output that is pulled to ground after an ADC conversion resulted in a fault to alert the host controller. A fault alert is enabled by setting the corresponding bit in the ALERT register (See Datasheet)", 10 SENSE- (in) "Current Sense Input. Connect an external sense resistor between SENSE+ and SENSE-. The differential voltage between SENSE+ and SENSE- is monitored by the onboard ADC with a full-scale sense voltage of 102.4mV.", 11 SENSE+ (in) "Supply Voltage and Current Sense Input. Used as a supply and current sense input for the internal current sense amplifier. The voltage at this pin is monitored by the onboard ADC with a full-scale input range of 102.4V. See (See Datasheet)", 12 VDD (power) "High Voltage Supply Input. This pin powers an internal series regulator with input voltages ranging from 4V to 80V and produces 5V at INTVCC when the input voltage is above 7V. Connect a bypass capacitor between 0.1uF and (See Datasheet)", 13 EP (power) "Exposed pad may be left open or connected to device ground. For best thermal performance, connect to a large PCB area."


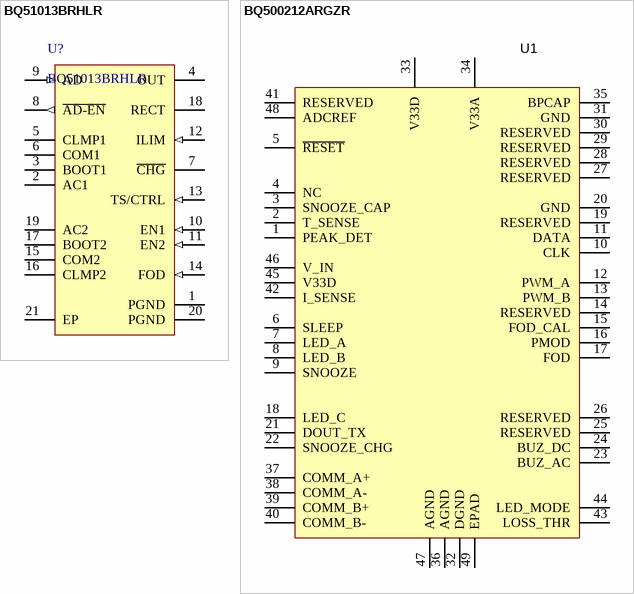
[diagram p11: symbols BQ51013BRHLR to BQ500212ARGZR]

## BQ51013BRHLR
designator U?
Manufacturer: Texas Instruments; PartNumber: BQ51013BRHLR; Mounting Technology: Surface Mount; PackageReference: VQFN-20
footprint VQFN-20 (QFN, 20-Leads, Body 4.5x3.5mm, Pitch 0.5mm, Thermal Pad 3.05x2.05mm, TI Recommended)
pins: 1 PGND (power) "Power ground", 2 AC1 (power) "AC input from receiver coil antenna.", 3 BOOT1 "Bootstrap capacitors for driving the high-side FETs of the synchronous rectifier. Connect a 10 nF ceramic capacitor from BOOT1 to AC1 and from BOOT2 to AC2.", 4 OUT (power) "Output pin, delivers power to the load", 5 CLMP1 (oc) "Open drain FETs which are utilized for a non-power dissipative over-voltage AC clamp protection. When the RECT voltage goes above 15 V, both switches will be turned on and the capacitors will act as a low impedance to (See Datasheet)", 6 COM1 (oc) "Open-drain output used to communicate with primary by varying reflected impedance. Connect through a capacitor to either AC1 or AC2 for capacitive load modulation (COM2 must be connected to the alternate AC1 or AC2 pin). For (See Datasheet)", 7 ~{CHG} (oc) "Open-drain output - active when output current is being delivered to the load (i.e. when the output of the supply is enabled).", 8 ~{AD-EN} (out) "Push-pull driver for external PFET connecting AD and OUT. This node is pulled to the higher of OUT and AD when turning off the external FET. This voltage tracks approximately 4 V below AD when voltage is present at AD and (See Datasheet)", 9 AD (in) "Connect this pin to the wired adapter input. When a voltage is applied to this pin wireless charging is disabled and AD_EN is driven low. Connect to GND through a 1 uF capacitor. If unused, capacitor is not required and (See Datasheet)", 10 EN1 (in) "Inputs that allow user to enable/disable wireless and wired charging <EN1 EN2>: <00> wireless charging is enabled unless AD voltage > 3.6 V <01> Dynamic communication current limit disabled <10> A\D\-\E\N\ pulled low, (See Datasheet)", 11 EN2 (in) "Inputs that allow user to enable/disable wireless and wired charging <EN1 EN2>: <00> wireless charging is enabled unless AD voltage > 3.6 V <01> Dynamic communication current limit disabled <10> A\D\-\E\N\ pulled low, (See Datasheet)", 12 ILIM (in) "Programming pin for the over current limit. Connect external resistor to VSS. Size RILIM with the following equation: RILIM = 250 / IMAX where IMAX is the expected maximum output current of the wireless power supply. The (See Datasheet)", 13 TS/CTRL (in) "Must be connected to ground via a resistor. If an NTC function is not desired connect to GND with a 10 kohm resistor. As a CTRL pin pull to ground to send end power transfer (EPT) fault to the transmitter or pull-up to an (See Datasheet)", 14 FOD (in) "Input for the recieved power measurement. Connect to GND with a 188 ohm resistor. Please refer FOD section for more detail.", 15 COM2 (oc) "Open-drain output used to communicate with primary by varying reflected impedance. Connect through a capacitor to either AC1 or AC2 for capacitive load modulation (COM2 must be connected to the alternate AC1 or AC2 pin). For (See Datasheet)", 16 CLMP2 (oc) "Open drain FETs which are utilized for a non-power dissipative over-voltage AC clamp protection. When the RECT voltage goes above 15 V, both switches will be turned on and the capacitors will act as a low impedance to (See Datasheet)", 17 BOOT2 "Bootstrap capacitors for driving the high-side FETs of the synchronous rectifier. Connect a 10 nF ceramic capacitor from BOOT1 to AC1 and from BOOT2 to AC2.", 18 RECT "Filter capacitor for the internal synchronous rectifier. Connect a ceramic capacitor to PGND. Depending on the power levels, the value may be 4.7 uF to 22 uF.", 19 AC2 (power) "AC input from receiver coil antenna.", 20 PGND (power) "Power ground", 21 EP

## BQ500212ARGZR
designator U1  (value not drawn)
IC, Qi Compliant Wireless Power Transmitter Manager; Manufacturer: Texas Instruments; PackageReference: VQFN-48; PartNumber: BQ500212ARGZR; Mounting Technology: Surface Mount
footprint QFN-48 (0.5MM) (QFN, 48-Leads, Body 7.00x7.00mm, Pitch 0.50mm, Thermal Pad 5.15x5.15mm, IPC Medium Density)
pins: 1 PEAK_DET, 2 T_SENSE, 3 SNOOZE_CAP, 4 NC, 5 ~{RESET}, 6 SLEEP, 7 LED_A, 8 LED_B, 9 SNOOZE, 10 CLK, 11 DATA, 12 PWM_A, 13 PWM_B, 14 RESERVED, 15 FOD_CAL, 16 PMOD, 17 FOD, 18 LED_C, 19 RESERVED, 20 GND, 21 DOUT_TX, 22 SNOOZE_CHG, 23 BUZ_AC, 24 BUZ_DC, 25 RESERVED, 26 RESERVED, 27 RESERVED, 28 RESERVED, 29 RESERVED, 30 RESERVED, 31 GND, 32 DGND, 33 V33D, 34 V33A, 35 BPCAP, 36 AGND, 37 COMM_A+, 38 COMM_A-, 39 COMM_B+, 40 COMM_B-, 41 RESERVED, 42 I_SENSE, 43 LOSS_THR, 44 LED_MODE, 45 V33D, 46 V_IN, 47 AGND, 48 ADCREF, 49 EPAD


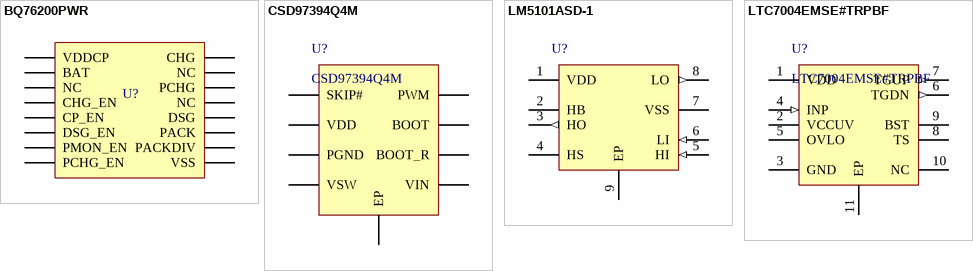
[diagram p12: symbols BQ76200PWR to LTC7004EMSE#TRPBF]

## BQ76200PWR
designator U?  (value not drawn)
Battery Management Fast high side NCH drive; Manufacturer: Texas Instruments; PartNumber: BQ76200PWR; PackageReference: TSSOP-16; Mounting Technology: Surface Mount
footprint TSSOP-16
pins: 1 VDDCP, 2 BAT, 3 NC, 4 CHG_EN, 5 CP_EN, 6 DSG_EN, 7 PMON_EN, 8 PCHG_EN, 9 VSS, 10 PACKDIV, 11 PACK, 12 DSG, 13 NC, 14 PCHG, 15 NC, 16 CHG

## CSD97394Q4M
designator U?
Manufacturer: Texas Instruments; PartNumber: CSD97394Q4M; Mounting Technology: Surface Mount; PackageReference: VSON-CLIP
footprint VSON-CLIP (SON, 18-Leads, Body 4.50x3.50mm, Pitch 0.40mm, Thermal Pad 3.95x1.99mm, IPC Medium Density)
pins: 1 SKIP#, 2 VDD, 3 PGND, 4 VSW, 5 VIN, 6 BOOT_R, 7 BOOT, 8 PWM, 9 EP

## LM5101ASD-1
designator U?
PartNumber: LM5101ASD-1; Manufacturer: Texas Instruments; PackageReference: 8-WSON; PackageDescription: 8-WDFN Exposed Pad; Mounting Technology: Surface Mount
footprint WDFN-8 (SON, 8-Leads, Body 3.00x3.00mm, Pitch 0.65mm, Thermal Pad 2.00x1.47mm, IPC Medium Density)
pins: 1 VDD (power) "Supply. This pin powers input buffers, logic and the low side gate driver output directly and the high side gate driver output through an external diode connected between this pin and BOOST (Pin 6). A low ESR ceramic bypass (See Datasheet)", 2 HB, 3 HO (out), 4 HS, 5 HI (in), 6 LI (in), 7 VSS (power), 8 LO (out), 9 EP (power) "Ground. Must be soldered to PCB ground for optimal thermal performance."

## LTC7004EMSE#TRPBF
designator U?
IC GATE DRVR HIGH-SIDE 10MSOP; Manufacturer: Linear Technology/Analog Devices; PartNumber: LTC7004EMSE#TRPBF; PackageReference: MSOP-10; Mounting Technology: Surface Mount
footprint MSOP-10 - EP (TSSOP, 10-Leads, Body 3.00x3.00mm, Pitch 0.50mm, IPC Medium Density)
pins: 1 VDD (power) "Supply. This pin powers input buffers, logic and the low side gate driver output directly and the high side gate driver output through an external diode connected between this pin and BOOST (Pin 6). A low ESR ceramic bypass (See Datasheet)", 2 VCCUV, 3 GND (power), 4 INP (in), 5 OVLO, 6 TGDN (out), 7 TGUP (out), 8 TS, 9 BST (power), 10 NC, 11 EP (power) "Ground. Must be soldered to PCB ground for optimal thermal performance."


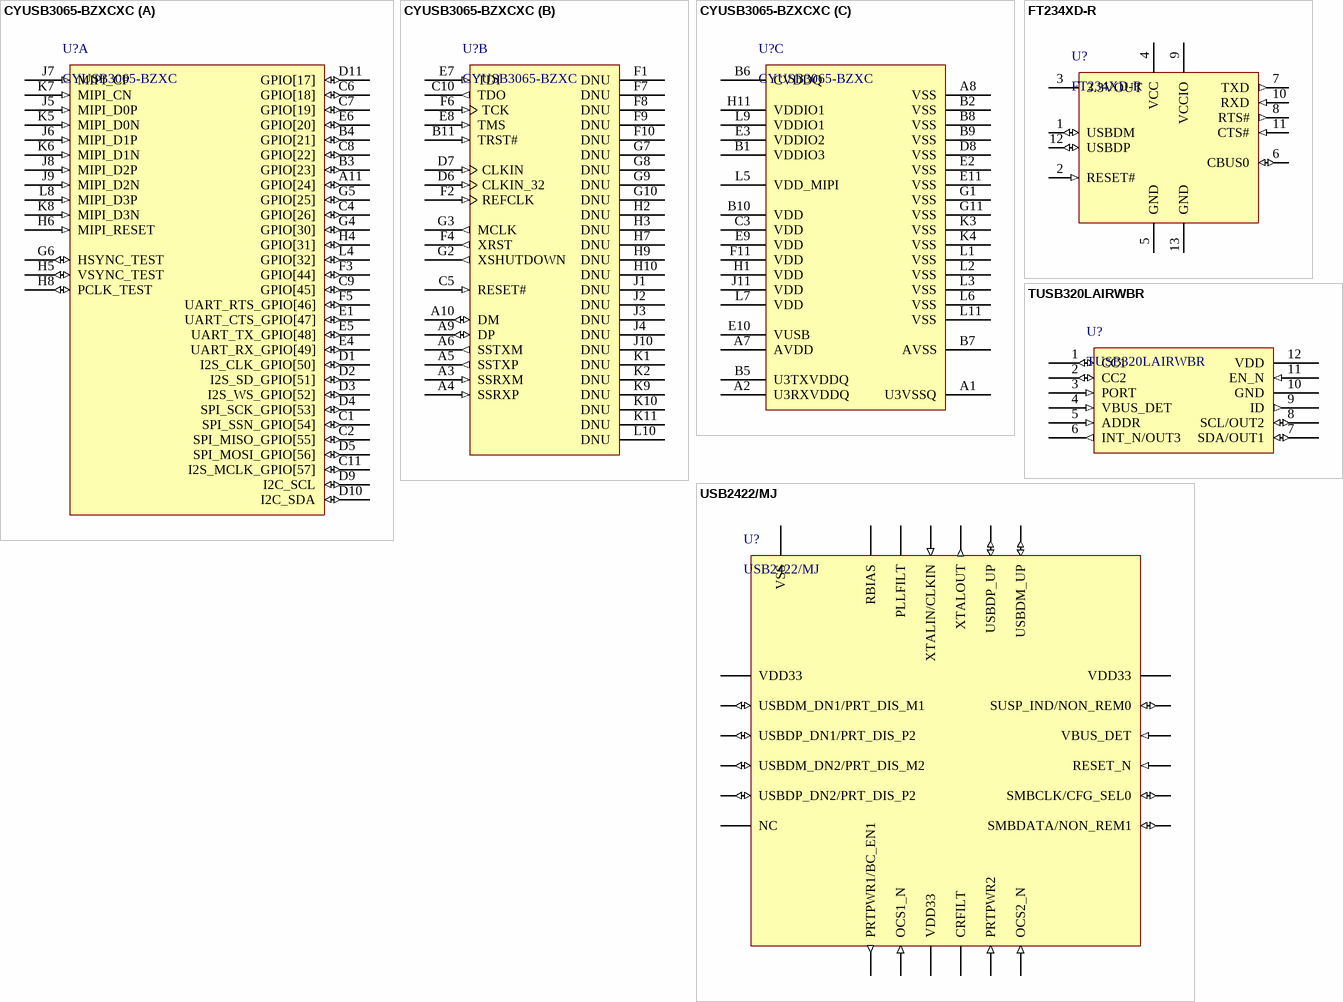
[diagram p13: symbols CYUSB3065-BZXCXC to USB2422/MJ]

## CYUSB3065-BZXCXC
designator U?, comment CYUSB3065-BZXC
MCU MIPI CSI-2 to USB Bridge Controller; Manufacturer: Cypress Semiconductor; Mounting Technology: Surface Mount; PartNumber: CYUSB3065-BZXC; PackageReference: BGA-121
footprint BGA-121 (BGA, 121-Leads, Body 10.00x10.00mmx1.70mm, Pitch 0.80mm)
part A pins: A11 GPIO[24] (io), B3 GPIO[23] (io), B4 GPIO[21] (io), C1 SPI_SSN_GPIO[54] (io), C2 SPI_MISO_GPIO[55] (io), C4 GPIO[26] (io), C6 GPIO[18] (io), C7 GPIO[19] (io), C8 GPIO[22] (io), C9 GPIO[45] (io), C11 I2S_MCLK_GPIO[57] (io), D1 I2S_CLK_GPIO[50] (io), D2 I2S_SD_GPIO[51] (io), D3 I2S_WS_GPIO[52] (io), D4 SPI_SCK_GPIO[53] (io), D5 SPI_MOSI_GPIO[56] (io), D9 I2C_SCL (io), D10 I2C_SDA (io), D11 GPIO[17] (io), E1 UART_CTS_GPIO[47] (io), E4 UART_RX_GPIO[49] (io), E5 UART_TX_GPIO[48] (io), E6 GPIO[20] (io), F3 GPIO[44] (io), F5 UART_RTS_GPIO[46] (io), G4 GPIO[30] (io), G5 GPIO[25] (io), G6 HSYNC_TEST (io), H4 GPIO[31] (io), H5 VSYNC_TEST (io), H6 MIPI_RESET (in), H8 PCLK_TEST (io), J5 MIPI_D0P (in), J6 MIPI_D1P (in), J7 MIPI_CP (in), J8 MIPI_D2P (in), J9 MIPI_D2N (in), K5 MIPI_D0N (in), K6 MIPI_D1N (in), K7 MIPI_CN (in), K8 MIPI_D3N (in), L4 GPIO[32] (io), L8 MIPI_D3P (in)
part B pins: A3 SSRXM (in), A4 SSRXP (in), A5 SSTXP (out), A6 SSTXM (out), A9 DP (io), A10 DM (io), B11 TRST# (in), C5 RESET# (in), C10 TDO (out), D6 CLKIN_32 (in), D7 CLKIN (in), E7 TDI (in), E8 TMS (in), F1 DNU, F2 REFCLK (in), F4 XRST (out), F6 TCK (in), F7 DNU, F8 DNU, F9 DNU, F10 DNU, G2 XSHUTDOWN (out), G3 MCLK (out), G7 DNU, G8 DNU, G9 DNU, G10 DNU, H2 DNU, H3 DNU, H7 DNU, H9 DNU, H10 DNU, J1 DNU, J2 DNU, J3 DNU, J4 DNU, J10 DNU, K1 DNU, K2 DNU, K9 DNU, K10 DNU, K11 DNU, L10 DNU
part C pins: A1 U3VSSQ (power), A2 U3RXVDDQ (power), A7 AVDD (power), A8 VSS (power), B1 VDDIO3 (power), B2 VSS (power), B5 U3TXVDDQ (power), B6 CVDDQ (power), B7 AVSS (power), B8 VSS (power), B9 VSS (power), B10 VDD (power), C3 VDD (power), D8 VSS (power), E2 VSS (power), E3 VDDIO2 (power), E9 VDD (power), E10 VUSB (power), E11 VSS (power), F11 VDD (power), G1 VSS (power), G11 VSS (power), H1 VDD (power), H11 VDDIO1 (power), J11 VDD (power), K3 VSS (power), K4 VSS (power), L1 VSS (power), L2 VSS (power), L3 VSS (power), L5 VDD_MIPI (power), L6 VSS (power), L7 VDD (power), L9 VDDIO1 (power), L11 VSS (power)

## FT234XD-R
designator U?
USB Interface IC USB to Serial UART Interface; Manufacturer: FTDI; PartNumber: FT234XD-R; PackageReference: DFN-12; Mounting Technology: Surface Mount
footprint DFN-12 (SON, 12-Leads, Body 3x3mm, Pitch 0.45mm, Thermal Pad 2.5x1.6mm)
pins: 1 USBDM (io) "USB Data Signal Minus.", 2 RESET# (in) "Reset input (active low).", 3 3.3VOUT (power) "3.3V output at 50mA. May be used to power VCCIO. When VCC is 3.3V; pin 3 is an input pin and should be connected to pin 4.", 4 VCC (power) "5 V (or 3.3V) supply to IC", 5 GND (power) "0V Ground input.", 6 CBUS0 (io) "Configurable CBUS I/O Pin. Function of this pin is configured in the device MTP memory. The default configuration is TXDEN.", 7 TXD (out) "Transmit Asynchronous Data Output.", 8 RTS# (out) "Request to Send Control Output / Handshake Signal.", 9 VCCIO (power) "1.8V - 3.3V supply for the IO cells", 10 RXD (in) "Receiving Asynchronous Data Input.", 11 CTS# (in) "Clear To Send Control Input / Handshake Signal.", 12 USBDP (io) "USB Data Signal Plus.", 13 GND (power) "0V Ground input."

## TUSB320LAIRWBR
designator U?
USB Interface IC Type-C Configuration Channel Logic and Port Control 12-X2QFN -40 to 85; Manufacturer: Texas Instruments; PackageReference: QFN-12; Mounting Technology: Surface Mount; PartNumber: TUSB320LAIRWBR
footprint X2QFN-12 (QFN, 12-Leads, Body 1.60x1.60mm, Pitch 0.40mm, IPC Medium Density)
pins: 1 CC1 (io), 2 CC2 (io), 3 PORT (in), 4 VBUS_DET (in), 5 ADDR (in), 6 INT_N/OUT3 (out), 7 SDA/OUT1 (io), 8 SCL/OUT2 (io), 9 ID (out), 10 GND (power), 11 EN_N (in), 12 VDD (power)

## USB2422/MJ
designator U?
USB Hub IC 2-Port; Manufacturer: Microchip; PartNumber: USB2422/MJ; PackageReference: QFN-24; Mounting Technology: Surface Mount
footprint QFN-24 (4x4MM) (QFN, 24-Leads, Body 4.00x4.00mm, Pitch 0.50mm, Thermal Pad 2.50x2.50mm, IPC Medium Density)
pins: 1 VDD33 (power), 2 USBDM_DN1/PRT_DIS_M1 (io), 3 USBDP_DN1/PRT_DIS_P2 (io), 4 USBDM_DN2/PRT_DIS_M2 (io), 5 USBDP_DN2/PRT_DIS_P2 (io), 6 NC, 7 PRTPWR1/BC_EN1 (out), 8 OCS1_N (in), 9 VDD33 (power), 10 CRFILT, 11 PRTPWR2 (in), 12 OCS2_N (in), 13 SMBDATA/NON_REM1 (io), 14 SMBCLK/CFG_SEL0 (io), 15 RESET_N (in), 16 VBUS_DET (in), 17 SUSP_IND/NON_REM0 (io), 18 VDD33 (power), 19 USBDM_UP (io), 20 USBDP_UP (io), 21 XTALOUT (out), 22 XTALIN/CLKIN (in), 23 PLLFILT, 24 RBIAS, 25 VSS (power)


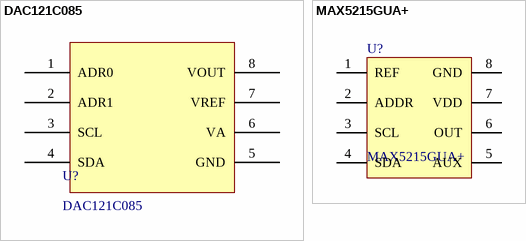
[diagram p14: symbols DAC121C085 to MAX5215GUA+]

## DAC121C085
designator U?
12 Bit Digital to Analog Converter; Manufacturer: Texas Instruments; Mounting Technology: Surface Mount; PartNumber: DAC121C085; PackageReference: VSSOP-8
footprint TSSOP-8 (TSOP, 8-Leads, Body 3.00x3.00mm, Pitch 0.65mm, IPC Medium Density)
pins: 1 ADR0, 2 ADR1, 3 SCL, 4 SDA, 5 GND, 6 VA, 7 VREF, 8 VOUT

## MAX5215GUA+
designator U?
14 Bit Digital to Analog Converter; Manufacturer: Maxim Integrated; PartNumber: MAX5215GUA+; Mounting Technology: Surface Mount; PackageReference: MSOP-8
footprint MSOP-8 (SOP, 8-Leads, Body 3x3mm, Pitch 0.65mm, IPC Medium Density)
pins: 1 REF, 2 ADDR, 3 SCL, 4 SDA, 5 AUX, 6 OUT, 7 VDD (power), 8 GND (power)


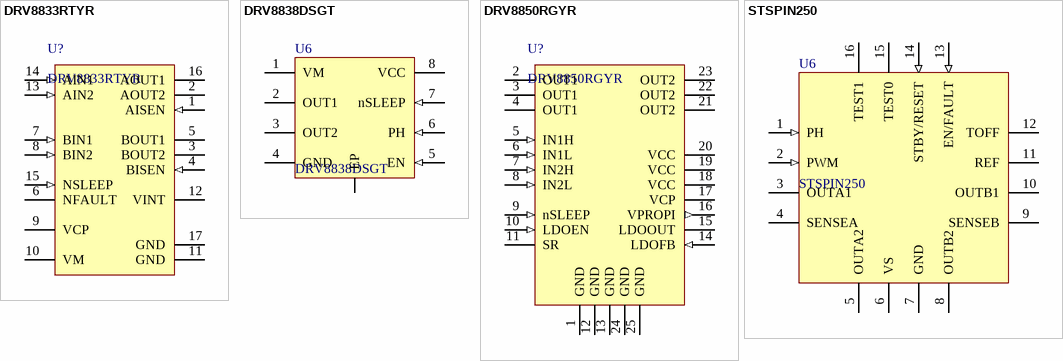
[diagram p15: symbols DRV8833RTYR to STSPIN250]

## DRV8833RTYR
designator U?
Manufacturer: Texas Instruments; PartNumber: DRV8833RTYR; Mounting Technology: Surface Mount; PackageReference: QFN-16
footprint QFN-16 (0.65mm) (QFN, 16-Leads, Body 4.00x4.00mm, Pitch 0.65mm, Thermal Pad 2.10x2.10mm, IPC Medium Density)
pins: 1 AISEN (in) "Bridge A ground / Isense", 2 AOUT2 (hiz) "Bridge A output 2", 3 BOUT2 (hiz) "Bridge B output 2", 4 BISEN (in) "Bridge B ground / Isense", 5 BOUT1 (hiz) "Bridge B output 1", 6 NFAULT (oc) "Fault output", 7 BIN1 (in) "Bridge B input 1", 8 BIN2 (in) "Bridge B input 2", 9 VCP "High-side gate drive voltage", 10 VM (power) "Device power supply", 11 GND (power) "Device ground", 12 VINT "Internal supply bypass", 13 AIN2 (in) "Bridge A input 2", 14 AIN1 (in) "Bridge A input 1", 15 NSLEEP (in) "Sleep mode input", 16 AOUT1 (hiz) "Bridge A output 1", 17 GND (power)

## DRV8838DSGT
designator U6
Half Bridge (2) Driver DC Motors, Solenoids NMOS 8-WSON (2x2); Manufacturer: Texas Instruments; PartNumber: DRV8838DSGT; Mounting Technology: Surface Mount; PackageReference: WSON-8
footprint WSON-8 (SON, 8-Leads, Body 2.00x2.00mm, Pitch 0.50mm, Thermal Pad 1.60x0.69mm, IPC Medium Density)
pins: 1 VM (power) "Motor speed indication output", 2 OUT1 (hiz) "Internal regulator output (for decoupling only)", 3 OUT2 (hiz) "Single-phase coil output pin", 4 GND (power) "Negative voltage supply (ground)", 5 EN (in) "PWM input signal for speed control", 6 PH (in) "Positive voltage supply for motor driver", 7 nSLEEP (in) "Single-phase coil output pin", 8 VCC (power) "Single-phase coil output pin", 9 EP

## DRV8850RGYR
designator U?
IC MOTOR DRIVER PAR 24VQFN; Manufacturer: Texas Instruments; PartNumber: DRV8850RGYR; Mounting Technology: Surface Mount; PackageReference: QFN-24
footprint VQFN-24 (5.5X3.5MM) (QFN, 24-Leads, Body 3.50x5.50mm, Pitch 1.50mm/0.50mm, Thermal Pad 2.26x2.44mm, IPC Medium Density)
pins: 1 GND (power), 2 OUT1 (power), 3 OUT1 (power), 4 OUT1 (power), 5 IN1H (in), 6 IN1L (in), 7 IN2H (in), 8 IN2L (in), 9 nSLEEP (in), 10 LDOEN (in), 11 SR, 12 GND (power), 13 GND (power), 14 LDOFB (in), 15 LDOOUT (power), 16 VPROPI (out), 17 VCP (power), 18 VCC (power), 19 VCC (power), 20 VCC (power), 21 OUT2 (power), 22 OUT2 (power), 23 OUT2 (power), 24 GND (power), 25 GND (power)

## STSPIN250
designator U6
Manufacturer: STMicroelectronics; PartNumber: STSPIN250; Mounting Technology: Surface Mount; PackageReference: QFN-16
footprint QFN-16 (QFN, 16-Leads, Body 3.00x3.00mm, Pitch 0.50mm, Thermal Pad 1.80x1.80mm, IPC Medium Density); pin to pad 7>7+17
pins: 1 PH (in) "Positive voltage supply for motor driver", 2 PWM (in) "PWM input signal for speed control", 3 OUTA1 (hiz), 4 SENSEA (hiz), 5 OUTA2 (power), 6 VS (power), 7 GND (power), 8 OUTB2 (hiz), 9 SENSEB (hiz) "Internal regulator output (for decoupling only)", 10 OUTB1 (hiz), 11 REF (hiz), 12 TOFF (hiz), 13 EN/FAULT (in) "Single-phase coil output pin", 14 STBY/RESET (in) "Single-phase coil output pin", 15 TEST0 (power) "Single-phase coil output pin", 16 TEST1 (power) "Single-phase coil output pin"


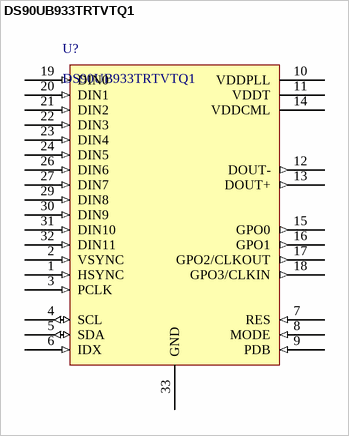
[diagram p16: symbol DS90UB933TRTVTQ1]

## DS90UB933TRTVTQ1
designator U?
Serializers & Deserializers - Serdes 12-bit 100 MHz FPD-Link III Serializer for 1MP/60fps and 2MP/30fps Cameras 32-WQFN -40 to 105; Manufacturer: Texas Instruments; PartNumber: DS90UB933TRTVTQ1; PackageReference: QFN-32; Mounting Technology: Surface Mount
footprint VQFN-32 (QFN, 32-Leads, Body 5x5mm, Pitch 0.5mm, Thermal Pad 3.45x3.45mm)
pins: 1 HSYNC (in), 2 VSYNC (in), 3 PCLK (in), 4 SCL (io), 5 SDA (io), 6 IDX (in), 7 RES (in), 8 MODE (in), 9 PDB (in), 10 VDDPLL (power), 11 VDDT (power), 12 DOUT- (out), 13 DOUT+ (out), 14 VDDCML (power), 15 GPO0 (out), 16 GPO1 (out), 17 GPO2/CLKOUT (out), 18 GPO3/CLKIN (out), 19 DIN0 (in), 20 DIN1 (in), 21 DIN2 (in), 22 DIN3 (in), 23 DIN4 (in), 24 DIN5 (in), 26 DIN6 (in), 27 DIN7 (in), 29 DIN8 (in), 30 DIN9 (in), 31 DIN10 (in), 32 DIN11 (in), 33 GND (power)


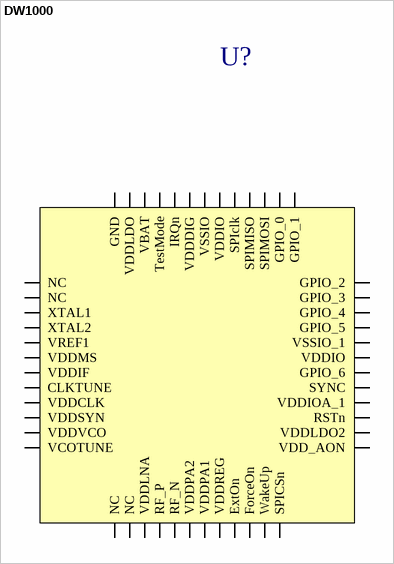
[diagram p17: symbol DW1000]

## DW1000
designator U?  (value not drawn)
UWB DW1000; PartNumber: DW1000-I-TR13; Manufacturer: Decawave Limited; PackageReference: QFN-48; Mounting Technology: Surface Mount
footprint QFN-48 (Footprint not found)
pins: 1 NC, 2 NC, 3 XTAL1, 4 XTAL2, 5 VREF1, 6 VDDMS, 7 VDDIF, 8 CLKTUNE, 9 VDDCLK, 10 VDDSYN, 11 VDDVCO, 12 VCOTUNE, 13 NC, 14 NC, 15 VDDLNA, 16 RF_P, 17 RF_N, 18 VDDPA2, 19 VDDPA1, 20 VDDREG, 21 ExtOn, 22 ForceOn, 23 WakeUp, 24 SPICSn, 25 VDD_AON, 26 VDDLDO2, 27 RSTn, 28 VDDIOA_1, 29 SYNC, 30 GPIO_6, 31 VDDIO, 32 VSSIO_1, 33 GPIO_5, 34 GPIO_4, 35 GPIO_3, 36 GPIO_2, 37 GPIO_1, 38 GPIO_0, 39 SPIMOSI, 40 SPIMISO, 41 SPIclk, 42 VDDIO, 43 VSSIO, 44 VDDDIG, 45 IRQn, 46 TestMode, 47 VBAT, 48 VDDLDO, 49 GND


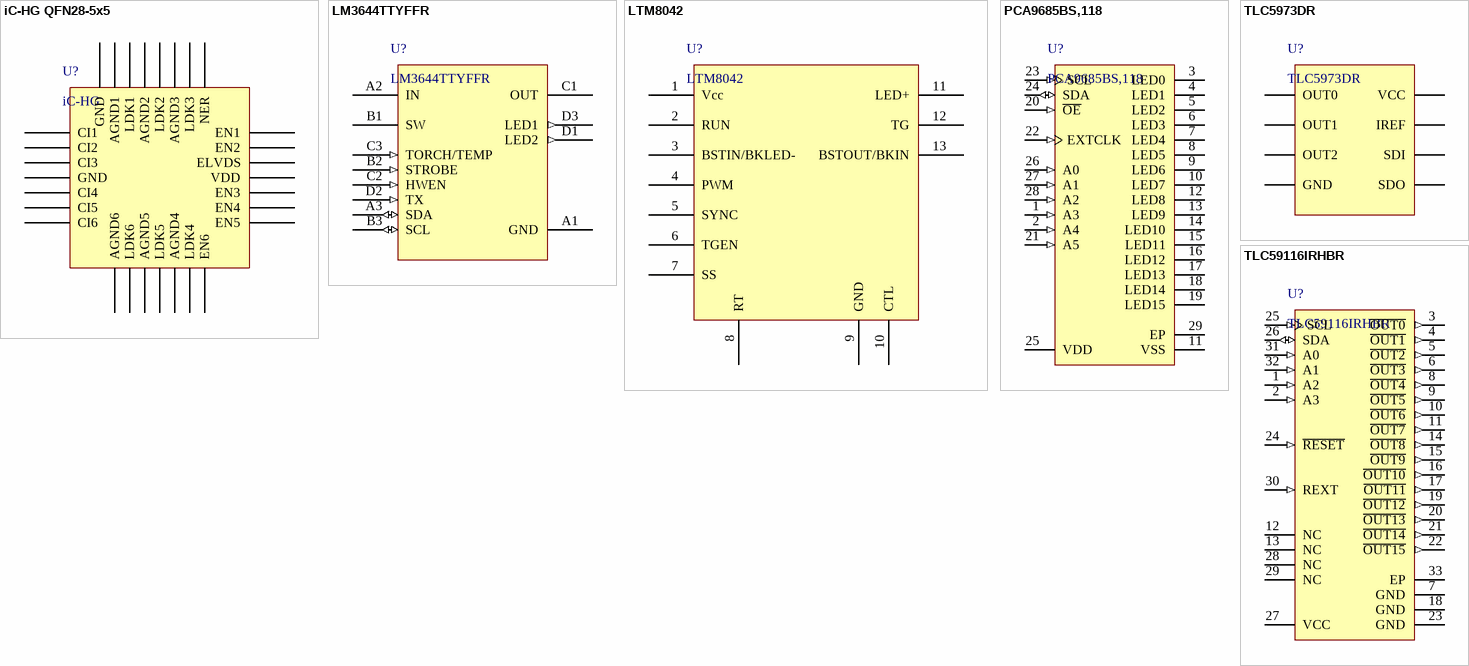
[diagram p18: symbols iC-HG QFN28-5x5 to TLC59116IRHBR]

## iC-HG QFN28-5x5
designator U?, comment iC-HG
PartNumber: iC-HG QFN28-5x5; Manufacturer: iC-Haus; Mounting Technology: Surface Mount; PackageReference: QFN-28
footprint QFN-28 (QFN, 28-Leads, Body 5.00x5.00mm, Pitch 0.50mm, Thermal Pad 3.15x3.15mm, IPC Medium Density)
pins: 1 CI1, 2 CI2, 3 CI3, 4 GND, 5 CI4, 6 CI5, 7 CI6, 8 AGND6, 9 LDK6, 10 AGND5, 11 LDK5, 12 AGND4, 13 LDK4, 14 EN6, 15 EN5, 16 EN4, 17 EN3, 18 VDD, 19 ELVDS, 20 EN2, 21 EN1, 22 NER, 23 LDK3, 24 AGND3, 25 LDK2, 26 AGND2, 27 LDK1, 28 AGND1, 29 GND

## LM3644TTYFFR
designator U?
LED Lighting Drivers 1.5 Amp LED driver; Manufacturer: Texas Instruments; PackageReference: BGA-12; Mounting Technology: Surface Mount; PartNumber: LM3644TTYFFR
footprint BGA-12 (BGA, 12-Leads, Body 1.28x1.66mmx0.63mm, Pitch 0.40mm)
pins: A1 GND (power), A2 IN (power), A3 SDA (io), B1 SW (power), B2 STROBE (in), B3 SCL (io), C1 OUT (power), C2 HWEN (in), C3 TORCH/TEMP (in), D1 LED2 (out), D2 TX (in), D3 LED1 (out)

## LTM8042
designator U?
Manufacturer: Linear Technology; PartNumber: LTM8042EV#PBF; Mounting Technology: Surface Mount; PackageReference: LGA
footprint LGA-77 (LGA, 77-Leads, Body 9.00x15.00mmx2.82mm, Pitch 1.27mm); pin to pad 1>A6+A7+B6+B7 2>F1 3>C5+C6+C7+D5+D6+D7 4>K1 5>G1 6>L3 7>J1 8>H1 9>A1+A2+A3+A4+A5+B1+B2+B3+B4+B5+C1+C2+C3+C4+D1+D2+D3+D4+E1+E2+E3+E4+E5+E6+E7+F2+F3+F4+F5+F6+F7+G2+G3+G4+H2+H3+H4+J2+J3+J4+K2+K3+K4+L1+L4 10>L2 11>K5+K6+K7+L5+L6+L7 12>J7 13>G5+G6+G7+H5+H6+H7+J5+J6
pins: 1 Vcc, 2 RUN, 3 BSTIN/BKLED-, 4 PWM, 5 SYNC, 6 TGEN, 7 SS, 8 RT, 9 GND, 10 CTL, 11 LED+, 12 TG, 13 BSTOUT/BKIN

## PCA9685BS,118
designator U?
IC LED DRVR LIN DIM 25MA 28HVQFN; Manufacturer: NXP; PartNumber: PCA9685BS,118; PackageReference: QFN-28; Mounting Technology: Surface Mount
footprint VQFN-28 (QFN, 28-Leads, Body 6.1x6.1mm, Pitch 0.65mm, Thermal Pad 4x4mm)
pins: 1 A3 (in) "address input 3", 2 A4 (in) "address input 4", 3 LED0 (hiz) "LED driver 0", 4 LED1 (hiz) "LED driver 1", 5 LED2 (hiz) "LED driver 2", 6 LED3 (hiz) "LED driver 3", 7 LED4 (hiz) "LED driver 4", 8 LED5 (hiz) "LED driver 5", 9 LED6 (hiz) "LED driver 6", 10 LED7 (hiz) "LED driver 7", 11 VSS (power) "supply ground", 12 LED8 (hiz) "LED driver 8", 13 LED9 (hiz) "LED driver 9", 14 LED10 (hiz) "LED driver 10", 15 LED11 (hiz) "LED driver 11", 16 LED12 (hiz) "LED driver 12", 17 LED13 (hiz) "LED driver 13", 18 LED14 (hiz) "LED driver 14", 19 LED15 (hiz) "LED driver 15", 20 ~{OE} (in) "active LOW output enable", 21 A5 (in) "address input 5", 22 EXTCLK (in) "external clock input", 23 SCL (in) "serial clock line", 24 SDA (io) "serial data line", 25 VDD (power) "supply voltage", 26 A0 (in) "address input 0", 27 A1 (in) "address input 1", 28 A2 (in) "address input 2", 29 EP (power)

## TLC5973DR
designator U?
LED Lighting Drivers 3Ch 12B PWM Constant Crnt LED Dvr; Manufacturer: Texas Instruments; PartNumber: TLC5973DR; Mounting Technology: Surface Mount; PackageReference: SOIC-8
footprint SOIC-8 (SOIC, 8-Leads, Body 4.90x3.90mm, Pitch 1.27mm, IPC Medium Density)
pins: 1 OUT0, 2 OUT1, 3 OUT2, 4 GND (power), 5 SDO, 6 SDI, 7 IREF, 8 VCC (power)